# Altium schematic symbol library CPI-2316-85T.SchLib: 1 symbol
Pins are listed as number, name and electrical type; pins without a type are passive.

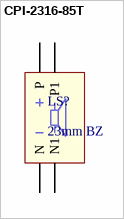
[diagram p0: symbol CPI-2316-85T]

## CPI-2316-85T
designator LS?, comment 23mm BZ
23 mm, 12 Vdc, 85 dB, Through Hole, Driving Circuit, Piezo Audio Indicator Buzzer; MF: Same Sky; MP: CPI-2316-85T; SnapEDA_Link: https://www.snapeda.com/parts/CPI-2316-85T/Same+Sky/view-part/?ref=snap; Package: CUI Devices; Value: *; Check_prices: https://www.snapeda.com/parts/CPI-2316-85T/Same+Sky/view-part/?ref=eda
footprint CUI_CPI-2316-85T
pins: N, N1, P, P1